# EAGLE library part PIC24FJ64GA004 (library microchip-dspic)
PIC24 28pin
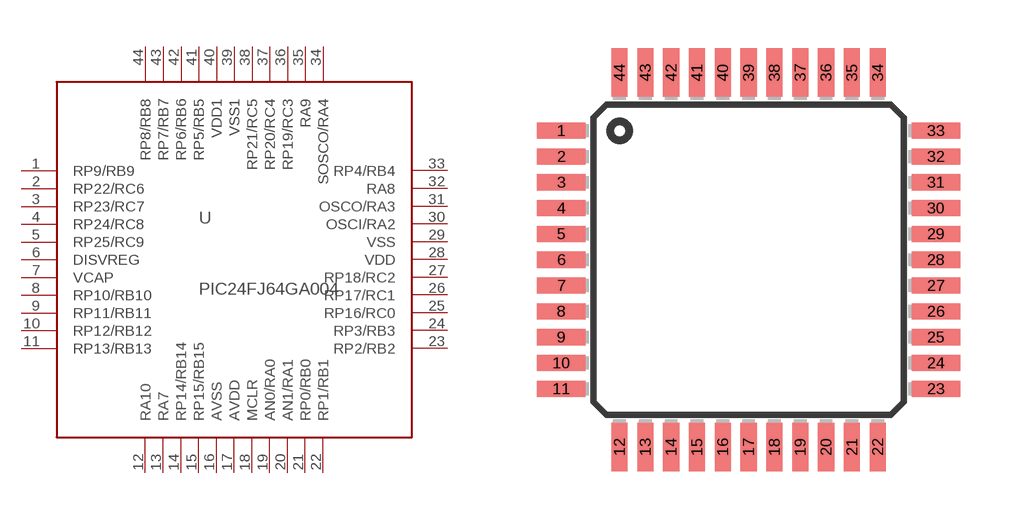
[diagram p25: symbol with the pads of TQFP44; footprint TQFP44]

Designator prefix -

## PIC24FJ64GA004  [TQFP44]
1  RP9/RB9
2  RP22/RC6
3  RP23/RC7
4  RP24/RC8
5  RP25/RC9
6  DISVREG
7  VCAP
8  RP10/RB10
9  RP11/RB11
10  RP12/RB12
11  RP13/RB13
12  RA10
13  RA7
14  RP14/RB14
15  RP15/RB15
16  AVSS
17  AVDD
18  MCLR
19  AN0/RA0
20  AN1/RA1
21  RP0/RB0
22  RP1/RB1
23  RP2/RB2
24  RP3/RB3
25  RP16/RC0
26  RP17/RC1
27  RP18/RC2
28  VDD
29  VSS
30  OSCI/RA2
31  OSCO/RA3
32  RA8
33  RP4/RB4
34  SOSCO/RA4
35  RA9
36  RP19/RC3
37  RP20/RC4
38  RP21/RC5
39  VSS1
40  VDD1
41  RP5/RB5
42  RP6/RB6
43  RP7/RB7
44  RP8/RB8

## Footprint TQFP44 (pad centres in mm)
Thin Quad Flat Pack package type TQ
smd 1.5 x 0.5: 1 -5.8,4; 2 -5.8,3.2; 3 -5.8,2.4; 4 -5.8,1.6; 5 -5.8,0.8; 6 -5.8,0; 7 -5.8,-0.8; 8 -5.8,-1.6; 9 -5.8,-2.4; 10 -5.8,-3.2; 11 -5.8,-4; 23 5.8,-4; 24 5.8,-3.2; 25 5.8,-2.4; 26 5.8,-1.6; 27 5.8,-0.8; 28 5.8,0; 29 5.8,0.8; 30 5.8,1.6; 31 5.8,2.4; 32 5.8,3.2; 33 5.8,4
smd 0.5 x 1.5: 12 -4,-5.8; 13 -3.2,-5.8; 14 -2.4,-5.8; 15 -1.6,-5.8; 16 -0.8,-5.8; 17 0,-5.8; 18 0.8,-5.8; 19 1.6,-5.8; 20 2.4,-5.8; 21 3.2,-5.8; 22 4,-5.8; 34 4,5.8; 35 3.2,5.8; 36 2.4,5.8; 37 1.6,5.8; 38 0.8,5.8; 39 0,5.8; 40 -0.8,5.8; 41 -1.6,5.8; 42 -2.4,5.8; 43 -3.2,5.8; 44 -4,5.8